# Altium schematic symbol library MCP2551.SchLib: 1 symbol
Pins are listed as number, name and electrical type; pins without a type are passive.

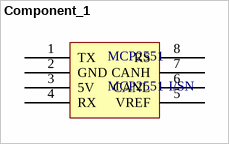
[diagram p0: symbol Component_1]

## Component_1
designator MCP2551, comment MCP2551-I/SN
CAN Interface IC Hi Spd CAN Transceiv
footprint SOIC127P600X175-8N (SOIC, 8-Leads, Body 4.90x3.90mm, Pitch 1.27mm, IPC Medium Density)
pins: 1 TX, 2 GND, 3 5V, 4 RX, 5 VREF, 6 CANL, 7 CANH, 8 RS